# EAGLE library part LM305H (library stabilizatory)
VOLTAGE REGULATOR
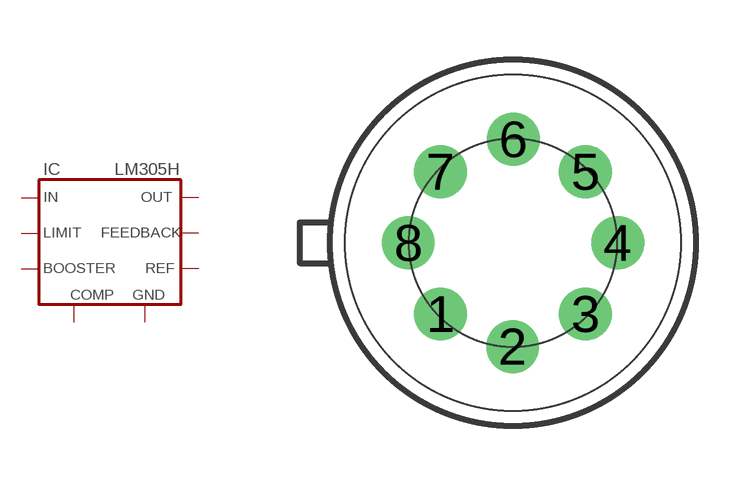
[diagram p15: symbol with the pads of TO99; footprint TO99]

Designator prefix IC

## LM305H  [TO99]
1  LIMIT  in
2  BOOSTER  in
3  IN  in
4  GND  in
5  REF  pas
6  FEEDBACK  pas
7  COMP  in
8  OUT  pas

## Footprint TO99 (pad centres in mm)
Metal Can Package
drill 0.813 round: 1 -1.813,-1.778; 2 -0.011,-2.594; 3 1.813,-1.778; 4 2.621,0; 5 1.813,1.778; 6 0.011,2.594; 7 -1.813,1.778; 8 -2.621,0